# EAGLE library part AT86RF212 (library ATMEL)
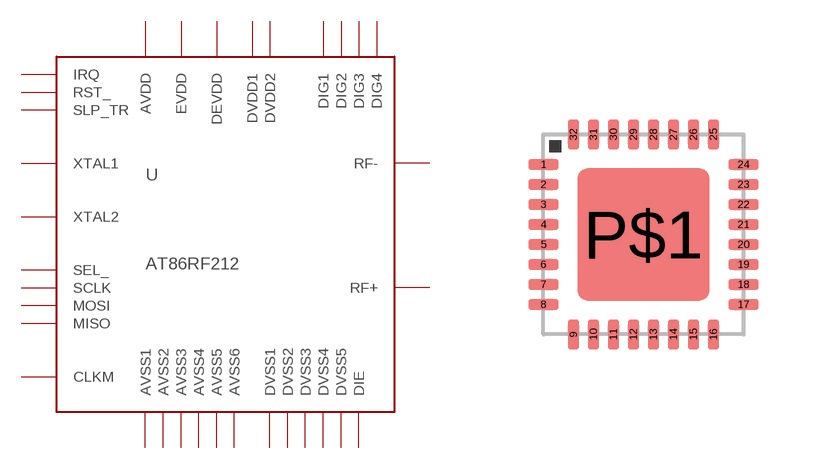
[diagram p1: symbol with the pads of S-PQFP-N32(RHB); footprint S-PQFP-N32(RHB)]

Designator prefix -

## AT86RF212  [S-PQFP-N32(RHB)]
1  DIG3
2  DIG4
3  AVSS1
4  RF+
5  RF-
6  AVSS2
7  DVSS1
8  RST_
9  DIG1
10  DIG2
11  SLP_TR
12  DVSS2
13  DVDD1
14  DVDD2
15  DEVDD
16  DVSS3
17  CLKM
18  DVSS4
19  SCLK
20  MISO
21  DVSS5
22  MOSI
23  SEL_
24  IRQ
25  XTAL2
26  XTAL1
27  AVSS3
28  EVDD
29  AVDD
30  AVSS4
31  AVSS5
32  AVSS6
P$1  DIE

## Footprint S-PQFP-N32(RHB) (pad centres in mm)
smd 0.762 x 0.279: 1 -2.5,1.75; 2 -2.5,1.25; 3 -2.5,0.75; 4 -2.5,0.25; 5 -2.5,-0.25; 6 -2.5,-0.75; 7 -2.5,-1.25; 8 -2.5,-1.75; 17 2.5,-1.75; 18 2.5,-1.25; 19 2.5,-0.75; 20 2.5,-0.25; 21 2.5,0.25; 22 2.5,0.75; 23 2.5,1.25; 24 2.5,1.75
smd 0.279 x 0.762: 9 -1.75,-2.5; 10 -1.25,-2.5; 11 -0.75,-2.5; 12 -0.25,-2.5; 13 0.25,-2.5; 14 0.75,-2.5; 15 1.25,-2.5; 16 1.75,-2.5; 25 1.75,2.5; 26 1.25,2.5; 27 0.75,2.5; 28 0.25,2.5; 29 -0.25,2.5; 30 -0.75,2.5; 31 -1.25,2.5; 32 -1.75,2.5
smd 3.3 x 3.3: P$1 0,0